# Altium footprint library SOIC-14.PcbLib: 3 footprints
Each footprint in its own frame and in the unit in brackets; x right, y up, seen from the top. Pads: shape width x height; smd on the part's side, far side on the other; paste and mask are expansions set on the pad; w line width, h text height; cw(c..) or ccw(c..) is an arc to the next point about the centre after c.
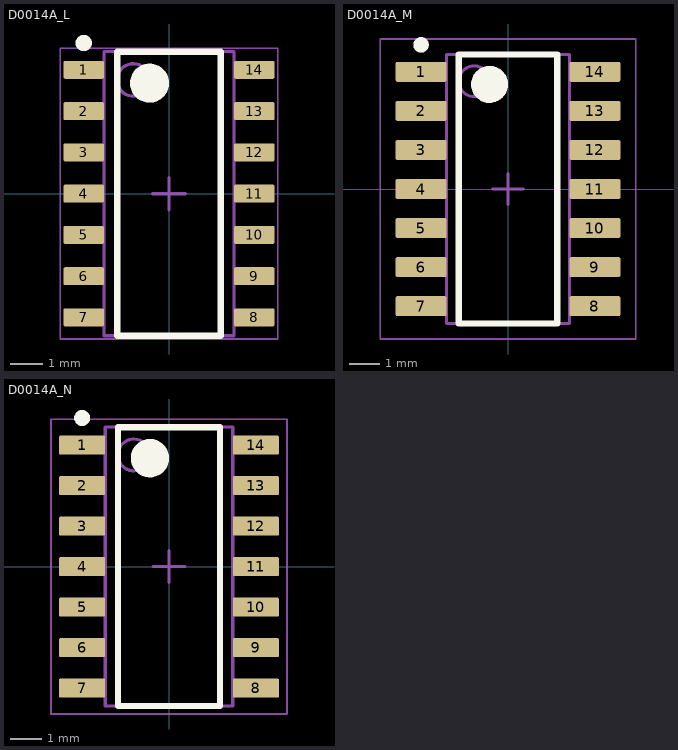
[diagram p0: the footprints below, top view; thin cyan lines are the x and y axes]

## D0014A_L [mm]
pads (14):
  rrect18% 1.25x0.55 smd: 1(-2.625,3.81) 2(-2.625,2.54) 3(-2.625,1.27) 4(-2.625,0) 5(-2.625,-1.27) 6(-2.625,-2.54) 7(-2.625,-3.81) 8(2.625,-3.81) 9(2.625,-2.54) 10(2.625,-1.27) 11(2.625,0) 12(2.625,1.27) 13(2.625,2.54) 14(2.625,3.81)
Top Overlay:
  circle w0.6: c-0.6,3.4 r0.3
  circle w0.25: c-2.625,4.635 r0.125
  lines w0.2: -1.6,-4.375 1.6,-4.375 1.6,4.375 -1.6,4.375 -1.6,-4.375
Mechanical 1:
  text ".Designator" at -1.525,-0.275 h0.8
Mechanical 13:
  circle w0.1: c-1.1,3.5 r0.5
  lines w0.1: -2,-4.375 2,-4.375 2,4.375 -2,4.375 -2,-4.375
Mechanical 15:
  lines w0.05: -3.35,-4.475 3.35,-4.475 3.35,4.475 -3.35,4.475 -3.35,-4.475
  lines w0.1: -0.5,0 0.5,0 ; 0,-0.5 0,0.5
3D body "SOIC-14akaD0014AakaM14A.stp": height 1.59, standoff -0.01, extent -3.023,-4.318 3.022,4.318

## D0014A_M [mm]
pads (14):
  rrect15% 1.65x0.65 smd: 1(-2.825,3.81) 2(-2.825,2.54) 3(-2.825,1.27) 4(-2.825,0) 5(-2.825,-1.27) 6(-2.825,-2.54) 7(-2.825,-3.81) 8(2.825,-3.81) 9(2.825,-2.54) 10(2.825,-1.27) 11(2.825,0) 12(2.825,1.27) 13(2.825,2.54) 14(2.825,3.81)
Top Overlay:
  circle w0.25: c-2.825,4.685 r0.125
  circle w0.6: c-0.6,3.4 r0.3
  lines w0.2: -1.6,-4.375 -1.6,4.375 1.6,4.375 1.6,-4.375 -1.6,-4.375
Mechanical 1:
  text ".Designator" at -1.575,-0.325 h0.8
Mechanical 13:
  circle w0.1: c-1.1,3.5 r0.5
  lines w0.1: -2,-4.375 -2,4.375 2,4.375 2,-4.375 -2,-4.375
Mechanical 15:
  lines w0.05: -4.15,-4.875 -4.15,4.875 4.15,4.875 4.15,-4.875 -4.15,-4.875
  lines w0.1: -0.5,0 0.5,0 ; 0,-0.5 0,0.5
3D body "SOIC-14akaD0014AakaM14A.stp": height 1.59, standoff -0.01, extent -3.023,-4.318 3.022,4.318

## D0014A_N [mm]
pads (14):
  rrect17% 1.45x0.6 smd: 1(-2.725,3.81) 2(-2.725,2.54) 3(-2.725,1.27) 4(-2.725,0) 5(-2.725,-1.27) 6(-2.725,-2.54) 7(-2.725,-3.81) 8(2.725,-3.81) 9(2.725,-2.54) 10(2.725,-1.27) 11(2.725,0) 12(2.725,1.27) 13(2.725,2.54) 14(2.725,3.81)
Top Overlay:
  circle w0.6: c-0.6,3.4 r0.3
  circle w0.25: c-2.725,4.66 r0.125
  lines w0.2: -1.6,-4.375 1.6,-4.375 1.6,4.375 -1.6,4.375 -1.6,-4.375
Mechanical 1:
  text ".Designator" at -1.575,-0.35 h0.8
Mechanical 13:
  circle w0.1: c-1.1,3.5 r0.5
  lines w0.1: -2,-4.375 2,-4.375 2,4.375 -2,4.375 -2,-4.375
Mechanical 15:
  lines w0.05: -3.7,-4.625 3.7,-4.625 3.7,4.625 -3.7,4.625 -3.7,-4.625
  lines w0.1: -0.5,0 0.5,0 ; 0,-0.5 0,0.5
3D body "SOIC-14akaD0014AakaM14A.stp": height 1.59, standoff -0.01, extent -3.023,-4.318 3.022,4.318